# EAGLE library part IDT71V632 (library oli)
64K x 32 3.3V Synchronous SRAM http://www1.idt.com/pcms/products.taf?catID=58755&genID=71V632
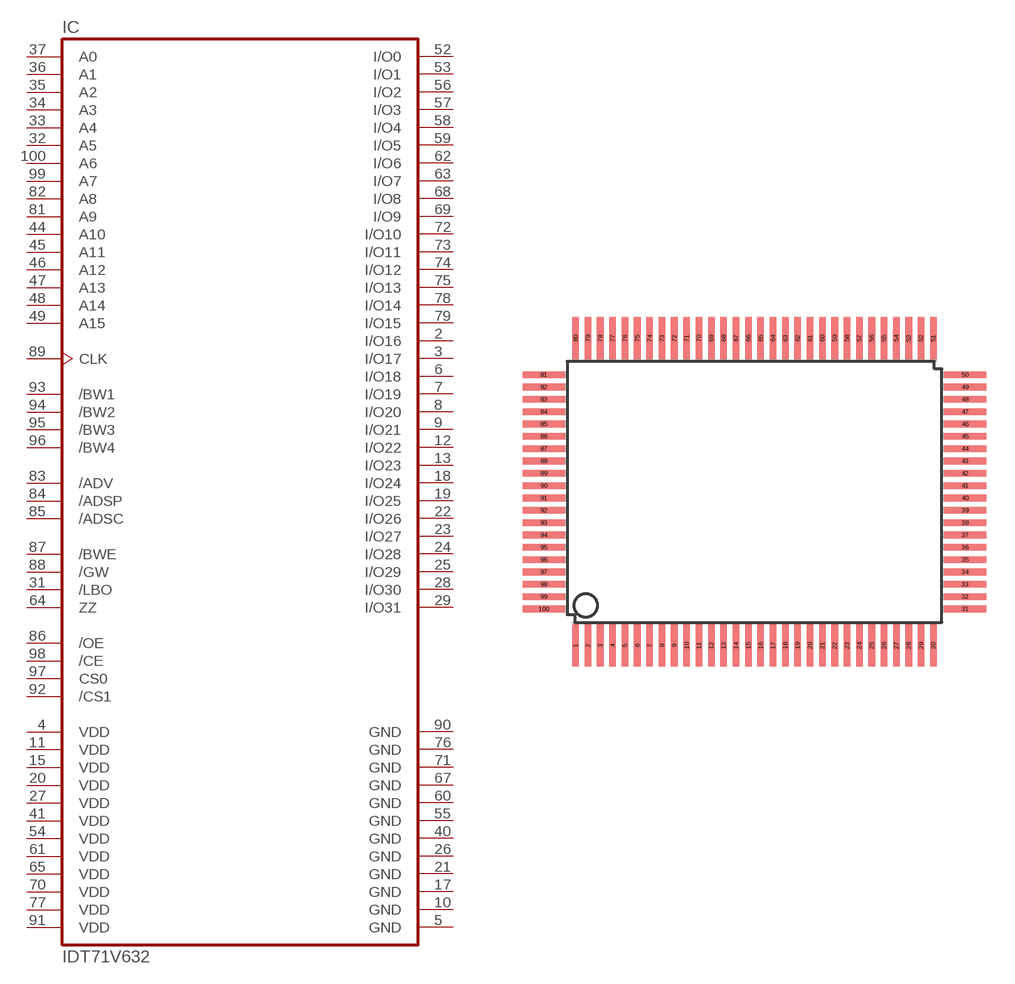
[diagram p3: symbol with the pads of MQFP100; footprint MQFP100]

Designator prefix IC

## IDT71V632  [MQFP100]
2  I/O16
3  I/O17
4  VDD  pwr
5  GND  pwr
6  I/O18
7  I/O19
8  I/O20
9  I/O21
10  GND  pwr
11  VDD  pwr
12  I/O22
13  I/O23
15  VDD  pwr
17  GND  pwr
18  I/O24
19  I/O25
20  VDD  pwr
21  GND  pwr
22  I/O26
23  I/O27
24  I/O28
25  I/O29
26  GND  pwr
27  VDD  pwr
28  I/O30
29  I/O31
31  /LBO  in
32  A5  in
33  A4  in
34  A3  in
35  A2  in
36  A1  in
37  A0  in
40  GND  pwr
41  VDD  pwr
44  A10  in
45  A11  in
46  A12  in
47  A13  in
48  A14  in
49  A15  in
52  I/O0
53  I/O1
54  VDD  pwr
55  GND
56  I/O2
57  I/O3
58  I/O4
59  I/O5
60  GND  pwr
61  VDD  pwr
62  I/O6
63  I/O7
64  ZZ  in
65  VDD  pwr
67  GND  pwr
68  I/O8
69  I/O9
70  VDD  pwr
71  GND  pwr
72  I/O10
73  I/O11
74  I/O12
75  I/O13
76  GND  pwr
77  VDD  pwr
78  I/O14
79  I/O15
81  A9  in
82  A8  in
83  /ADV  in
84  /ADSP  in
85  /ADSC  in
86  /OE  in
87  /BWE  in
88  /GW  in
89  CLK  in
90  GND  pwr
91  VDD  pwr
92  /CS1  in
93  /BW1  in
94  /BW2  in
95  /BW3  in
96  /BW4  in
97  CS0  in
98  /CE  in
99  A7  in
100  A6  in

## Footprint MQFP100 (pad centres in mm)
Metric Quad Flat Pack
smd 0.35 x 2.2: 1 -9.425,-8.1; 2 -8.775,-8.1; 3 -8.125,-8.1; 4 -7.475,-8.1; 5 -6.825,-8.1; 6 -6.175,-8.1; 7 -5.525,-8.1; 8 -4.875,-8.1; 9 -4.225,-8.1; 10 -3.575,-8.1; 11 -2.925,-8.1; 12 -2.275,-8.1; 13 -1.625,-8.1; 14 -0.975,-8.1; 15 -0.325,-8.1; 16 0.325,-8.1; 17 0.975,-8.1; 18 1.625,-8.1; 19 2.275,-8.1; 20 2.925,-8.1; 21 3.575,-8.1; 22 4.225,-8.1; 23 4.875,-8.1; 24 5.525,-8.1; 25 6.175,-8.1; 26 6.825,-8.1; 27 7.475,-8.1; 28 8.125,-8.1; 29 8.775,-8.1; 30 9.425,-8.1; 51 9.425,8.1; 52 8.775,8.1; 53 8.125,8.1; 54 7.475,8.1; 55 6.825,8.1; 56 6.175,8.1; 57 5.525,8.1; 58 4.875,8.1; 59 4.225,8.1; 60 3.575,8.1; 61 2.925,8.1; 62 2.275,8.1; 63 1.625,8.1; 64 0.975,8.1; 65 0.325,8.1; 66 -0.325,8.1; 67 -0.975,8.1; 68 -1.625,8.1; 69 -2.275,8.1; 70 -2.925,8.1; 71 -3.575,8.1; 72 -4.225,8.1; 73 -4.875,8.1; 74 -5.525,8.1; 75 -6.175,8.1; 76 -6.825,8.1; 77 -7.475,8.1; 78 -8.125,8.1; 79 -8.775,8.1; 80 -9.425,8.1
smd 2.2 x 0.35: 31 11.1,-6.175; 32 11.1,-5.525; 33 11.1,-4.875; 34 11.1,-4.225; 35 11.1,-3.575; 36 11.1,-2.925; 37 11.1,-2.275; 38 11.1,-1.625; 39 11.1,-0.975; 40 11.1,-0.325; 41 11.1,0.325; 42 11.1,0.975; 43 11.1,1.625; 44 11.1,2.275; 45 11.1,2.925; 46 11.1,3.575; 47 11.1,4.225; 48 11.1,4.875; 49 11.1,5.525; 50 11.1,6.175; 81 -11.1,6.175; 82 -11.1,5.525; 83 -11.1,4.875; 84 -11.1,4.225; 85 -11.1,3.575; 86 -11.1,2.925; 87 -11.1,2.275; 88 -11.1,1.625; 89 -11.1,0.975; 90 -11.1,0.325; 91 -11.1,-0.325; 92 -11.1,-0.975; 93 -11.1,-1.625; 94 -11.1,-2.275; 95 -11.1,-2.925; 96 -11.1,-3.575; 97 -11.1,-4.225; 98 -11.1,-4.875; 99 -11.1,-5.525; 100 -11.1,-6.175